# Altium footprint library SparkFun-LED.PCBLIB: 46 footprints (part 2 of 3)
Each footprint in its own frame and in the unit in brackets; x right, y up, seen from the top. Pads: shape width x height; smd on the part's side, far side on the other; paste and mask are expansions set on the pad; w line width, h text height; cw(c..) or ccw(c..) is an arc to the next point about the centre after c.
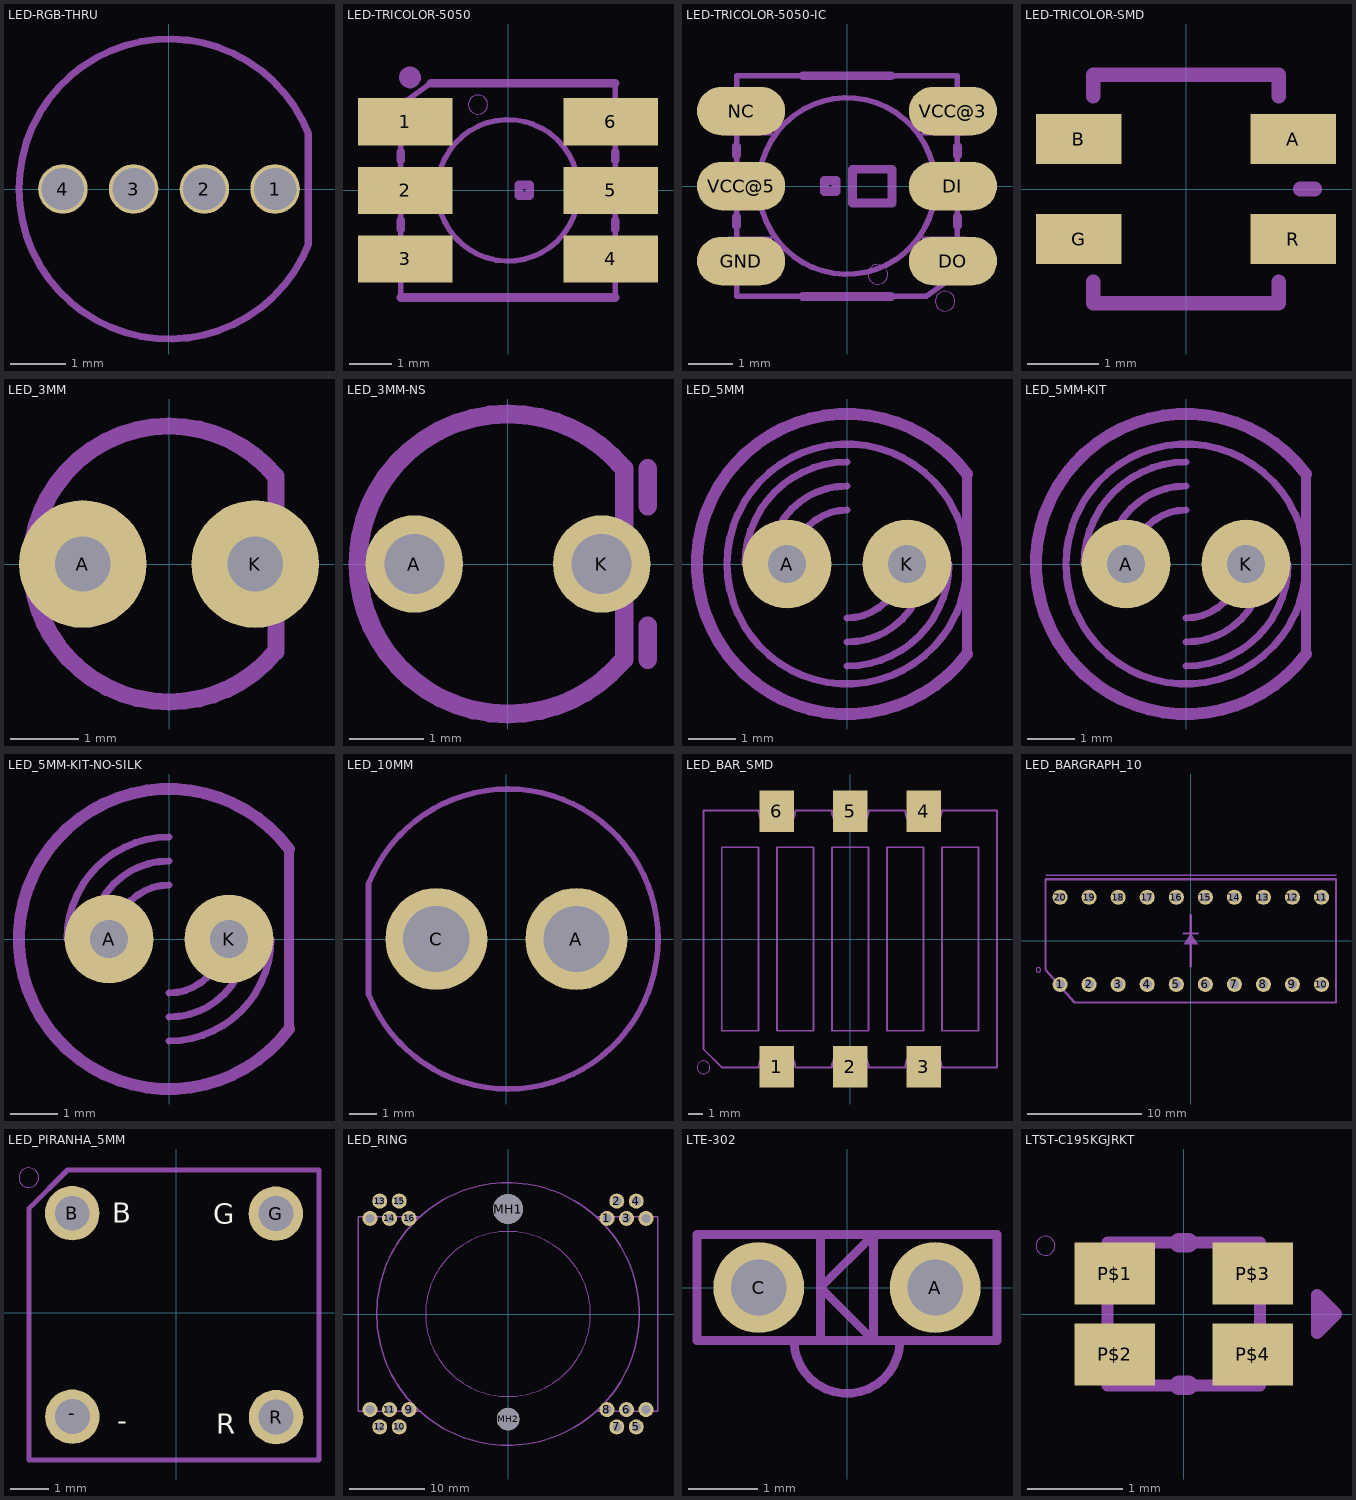
[diagram p1: the footprints below, top view; thin cyan lines are the x and y axes]

## LED-RGB-THRU [mil]
pads (4):
  round 35 hole 30: 1(75,0) 2(25,0) 3(-25,0) 4(-75,0)
tDocu:
  lines w5: 98.43,-39.37 98.43,39.37 ccw(c0.01,0) 98.43,-39.37
tPlace:
  lines w5: 98.43,-39.37 98.43,39.37 ccw(c0.01,0) 98.43,-39.37
bPlace:
  lines w5: 98.43,-39.37 98.43,39.37

## LED-TRICOLOR-5050 [mil]
pads (6):
  rect 86.61x43.31 smd: 1(-94.49,62.99) 2(-94.49,0) 3(-94.49,-62.99) 4(94.49,-62.99) 5(94.49,0) 6(94.49,62.99)
tDocu:
  circle w5: c0,0 r64.96
  region: 66.93,-17.72 66.93,17.72 106.3,17.72 106.3,-17.72
  region: 66.93,45.28 66.93,80.71 106.3,80.71 106.3,45.28
  region: 66.93,-80.71 66.93,-45.28 106.3,-45.28 106.3,-80.71
  region: -66.93,80.71 -66.93,45.28 -106.3,45.28 -106.3,80.71
  region: -66.93,17.72 -66.93,-17.72 -106.3,-17.72 -106.3,17.72
  region: -66.93,-45.28 -66.93,-80.71 -106.3,-80.71 -106.3,-45.28
  lines w5: -98.43,-98.43 -98.43,78.74 -70.87,98.43 98.43,98.43 98.43,-98.43 -98.43,-98.43
tPlace:
  circle w0: c-27.56,78.74 r8.8
  circle w10: c-90.06,103.74 r5
  lines w8: -98.43,-98.43 98.43,-98.43 ; -98.43,-35.43 -98.43,-27.56 ; -98.43,27.56 -98.43,35.43 ; -70.87,98.43 98.43,98.43 ; 98.43,-35.43 98.43,-27.56 ; 98.43,27.56 98.43,35.43 ; 10,-5 10,5 20,5 20,-5 10,-5

## LED-TRICOLOR-5050-IC [mm]
pads (6):
  rrect100% 2x1.1 smd: DI(2.4,0) DO(2.4,-1.7) GND(-2.4,-1.7) NC(-2.4,1.7) VCC@3(2.4,1.7) VCC@5(-2.4,0)
tDocu:
  circle w0.127: c0,0 r2
  region: -1.7,0.45 -1.7,-0.45 -2.7,-0.45 -2.7,0.45
  region: -1.7,-1.15 -1.7,-2.05 -2.7,-2.05 -2.7,-1.15
  region: -1.7,2.05 -1.7,1.15 -2.7,1.15 -2.7,2.05
  region: 1.7,-2.05 1.7,-1.15 2.7,-1.15 2.7,-2.05
  region: 1.7,-0.45 1.7,0.45 2.7,0.45 2.7,-0.45
  region: 1.7,1.15 1.7,2.05 2.7,2.05 2.7,1.15
  lines w0.127: -2.5,-2.5 1.8,-2.5 2.5,-2 2.5,2.5 -2.5,2.5 -2.5,-2.5
tPlace:
  circle w0: c0.7,-2 r0.224
  circle w0: c2.224,-2.61 r0.224
  lines w0.203: -2.5,-0.9 -2.5,-0.7 ; -2.5,0.7 -2.5,0.9 ; -1,-2.5 1,-2.5 ; -1,2.5 1,2.5 ; 2.5,-0.9 2.5,-0.7 ; 2.5,0.7 2.5,0.9 ; -0.508,-0.127 -0.254,-0.127 -0.254,0.127 -0.508,0.127 -0.508,-0.127 ; 0.127,-0.381 1.016,-0.381 1.016,0.381 0.127,0.381 0.127,-0.381

## LED-TRICOLOR-SMD [mil]
pads (4):
  rect 47.24x27.56 smd: A(59.06,27.56) B(-59.06,27.56) G(-59.06,-27.56) R(59.06,-27.56)
tDocu:
  lines w8: 62.99,0 70.87,0
tPlace:
  lines w8: -51.18,-51.18 -51.18,-62.99 51.18,-62.99 51.18,-51.18 ; -51.18,51.18 -51.18,62.99 51.18,62.99 51.18,51.18 ; 62.99,0 70.87,0

## LED_3MM [mil]
pads (2):
  round 74 hole 32: A(-50,0) K(50,0)
tDocu:
  lines w10: -70.44,37.93 ccw(c0,0.01) -80,0 ccw(c0,0) -68.13,-41.93 ; 62,-50 62,50
tPlace:
  lines w10: -70.59,37.65 cw(c0,0) 0,80 cw(c0.01,0) 61.46,51.22 ; -69.46,-39.69 ccw(c0,0) 0,-80 ccw(c0,0) 61.07,-51.68 ; 62,-51 62,-33 ; 62,31 62,51
bPlace:
  lines w10: -70.59,37.65 cw(c0,0) 0,80 cw(c0.01,0) 61.46,51.22 ; -69.46,-39.69 ccw(c0,0) 0,-80 ccw(c0,0) 61.07,-51.68 ; 62,-51 62,-33 ; 62,31 62,51

## LED_3MM-NS [mil]
pads (2):
  round 52 hole 32: A(-50,0) K(50,0)
tDocu:
  lines w10: -70.59,37.65 cw(c0,0) 0,80 cw(c0.01,0) 61.46,51.22 ; -70.44,37.93 ccw(c0,0.01) -80,0 ccw(c0,0) -68.13,-41.93 ; -69.46,-39.69 ccw(c0,0) 0,-80 ccw(c0,0) 61.07,-51.68 ; 62,-51 62,-33 ; 62,-50 62,50 ; 62,31 62,51
tPlace:
  lines w10: 74.5,-51 74.5,-33 ; 74.5,31 74.5,51

## LED_5MM [mil]
pads (2):
  round 74 hole 32: A(-50,0) K(50,0)
tDocu:
  lines w6: -85,0 cw(c0,0) 0,85 ; -65,0 cw(c0,0) 0,65 ; -45,0 cw(c0,0) 0,45 ; 0,-85 ccw(c0,0) 85,0 ; 0,-65 ccw(c0,0) 65,0 ; 0,-45 ccw(c0,0) 45,0
  lines w8: 100,-75 100,75
tPlace:
  circle w6: c0,0 r100
  lines w8: 100,-75 100,75
  lines w10: 100,-75 cw(c0,0) 100,75
bPlace:
  lines w8: 100,-75 100,75

## LED_5MM-KIT [mil]
pads (2):
  round 74 hole 32: A(-50,0) K(50,0)
Top Solder:
  region: -50,-17.5 -53.4,-17.58 -59.75,-15.12 -64.67,-10.43 -67.42,-4.2 -67.5,-0.8 -67.59,2.77 -65.02,9.44 -60.1,14.61 -53.57,17.51 -50,17.6 -46.48,17.54 -40.02,14.74 -35.12,9.67 -32.54,3.12 -32.6,-0.4 -32.63,-3.83 -35.31,-10.15 -40.21,-14.96 -46.57,-17.53 -50,-17.5
  region: 50,-17.5 46.6,-17.58 40.25,-15.12 35.33,-10.43 32.58,-4.2 32.5,-0.8 32.41,2.77 34.98,9.44 39.9,14.61 46.43,17.51 50,17.6 53.52,17.54 59.98,14.74 64.88,9.67 67.46,3.12 67.4,-0.4 67.37,-3.83 64.69,-10.15 59.79,-14.96 53.43,-17.53 50,-17.5
Bottom Solder:
  region: -49.9,-37.5 -53.55,-37.55 -60.74,-36.22 -67.53,-33.51 -73.66,-29.54 -78.9,-24.44 -83.04,-18.42 -85.93,-11.7 -87.45,-4.55 -87.5,-0.9 -87.54,2.84 -86.17,10.19 -83.4,17.13 -79.32,23.39 -74.09,28.74 -67.93,32.97 -61.05,35.91 -53.74,37.46 -50,37.5 -46.26,37.45 -38.95,35.88 -32.09,32.92 -25.93,28.68 -20.72,23.31 -16.66,17.04 -13.9,10.09 -12.55,2.74 -12.6,-1 -12.64,-4.63 -14.13,-11.75 -16.99,-18.43 -21.09,-24.44 -26.29,-29.52 -32.37,-33.49 -39.12,-36.2 -46.27,-37.54 -49.9,-37.5
  region: 50.1,-37.5 46.45,-37.55 39.26,-36.22 32.47,-33.51 26.34,-29.54 21.1,-24.44 16.96,-18.42 14.07,-11.7 12.55,-4.55 12.5,-0.9 12.46,2.84 13.83,10.19 16.6,17.13 20.68,23.39 25.91,28.74 32.07,32.97 38.95,35.91 46.26,37.46 50,37.5 53.74,37.45 61.05,35.88 67.91,32.92 74.07,28.68 79.28,23.31 83.34,17.04 86.1,10.09 87.45,2.74 87.4,-1 87.36,-4.63 85.87,-11.75 83.01,-18.43 78.91,-24.44 73.71,-29.52 67.63,-33.49 60.88,-36.2 53.73,-37.54 50.1,-37.5
tDocu:
  lines w6: -85,0 cw(c0,0) 0,85 ; -65,0 cw(c0,0) 0,65 ; -45,0 cw(c0,0) 0,45 ; 0,-85 ccw(c0,0) 85,0 ; 0,-65 ccw(c0,0) 65,0 ; 0,-45 ccw(c0,0) 45,0
  lines w8: 100,-75 100,75
tPlace:
  circle w6: c0,0 r100
  lines w8: 100,-75 100,75
  lines w10: 100,-75 cw(c0,0) 100,75
bPlace:
  lines w8: 100,-75 100,75

## LED_5MM-KIT-NO-SILK [mil]
pads (2):
  round 74 hole 32: A(-50,0) K(50,0)
Top Solder:
  region: -50,-17.5 -53.4,-17.58 -59.75,-15.12 -64.67,-10.43 -67.42,-4.2 -67.5,-0.8 -67.59,2.77 -65.02,9.44 -60.1,14.61 -53.57,17.51 -50,17.6 -46.48,17.54 -40.02,14.74 -35.12,9.67 -32.54,3.12 -32.6,-0.4 -32.63,-3.83 -35.31,-10.15 -40.21,-14.96 -46.57,-17.53 -50,-17.5
  region: 50,-17.5 46.6,-17.58 40.25,-15.12 35.33,-10.43 32.58,-4.2 32.5,-0.8 32.41,2.77 34.98,9.44 39.9,14.61 46.43,17.51 50,17.6 53.52,17.54 59.98,14.74 64.88,9.67 67.46,3.12 67.4,-0.4 67.37,-3.83 64.69,-10.15 59.79,-14.96 53.43,-17.53 50,-17.5
Bottom Solder:
  region: -49.9,-37.5 -53.55,-37.55 -60.74,-36.22 -67.53,-33.51 -73.66,-29.54 -78.9,-24.44 -83.04,-18.42 -85.93,-11.7 -87.45,-4.55 -87.5,-0.9 -87.54,2.84 -86.17,10.19 -83.4,17.13 -79.32,23.39 -74.09,28.74 -67.93,32.97 -61.05,35.91 -53.74,37.46 -50,37.5 -46.26,37.45 -38.95,35.88 -32.09,32.92 -25.93,28.68 -20.72,23.31 -16.66,17.04 -13.9,10.09 -12.55,2.74 -12.6,-1 -12.64,-4.63 -14.13,-11.75 -16.99,-18.43 -21.09,-24.44 -26.29,-29.52 -32.37,-33.49 -39.12,-36.2 -46.27,-37.54 -49.9,-37.5
  region: 50.1,-37.5 46.45,-37.55 39.26,-36.22 32.47,-33.51 26.34,-29.54 21.1,-24.44 16.96,-18.42 14.07,-11.7 12.55,-4.55 12.5,-0.9 12.46,2.84 13.83,10.19 16.6,17.13 20.68,23.39 25.91,28.74 32.07,32.97 38.95,35.91 46.26,37.46 50,37.5 53.74,37.45 61.05,35.88 67.91,32.92 74.07,28.68 79.28,23.31 83.34,17.04 86.1,10.09 87.45,2.74 87.4,-1 87.36,-4.63 85.87,-11.75 83.01,-18.43 78.91,-24.44 73.71,-29.52 67.63,-33.49 60.88,-36.2 53.73,-37.54 50.1,-37.5
tDocu:
  lines w6: -85,0 cw(c0,0) 0,85 ; -65,0 cw(c0,0) 0,65 ; -45,0 cw(c0,0) 0,45 ; 0,-85 ccw(c0,0) 85,0 ; 0,-65 ccw(c0,0) 65,0 ; 0,-45 ccw(c0,0) 45,0
  lines w8: 100,-75 100,75 100,-75
  lines w10: 100,-75 cw(c0,0) 100,75

## LED_10MM [mm]
pads (2):
  round 3.7 hole 2.4: A(2.54,0) C(-2.54,0)
tDocu:
  lines w0.203: -5,-2 -5,2
  text "L" at 2.159,2.54 h1.57
  text "S" at -2.921,2.54 h1.57
tPlace:
  lines w0.203: -5,-2 ccw(c0.059,0) -5,2 -5,-2
bPlace:
  lines w0.203: -5,-2 -5,2

## LED_BAR_SMD [mil]
pads (6):
  rect 94.49x113.39 smd: 1(-200,-348.03) 2(0,-348.03) 3(200,-348.03) 4(200,348.03) 5(0,348.03) 6(-200,348.03)
tPlace:
  circle w0: c-400,-350 r17.68
Reference:
  lines w5: -400,-300 -400,350 -250,350 ccw(c-200,350) -200,300 ccw(c-200,350) -150,350 -50,350 ccw(c0,350) 0,300 ccw(c0,350) 50,350 150,350 ccw(c200,350) 200,300 ccw(c200,350) 250,350 400,350 400,-350 250,-350 ccw(c200,-350) 200,-300 ccw(c200,-350) 150,-350 50,-350 ccw(c0,-350) 0,-300 ccw(c0,-350) -50,-350 -150,-350 ccw(c-200,-350) -200,-300 ccw(c-200,-350) -250,-350 -350,-350 -400,-300 ; -350,-250 -250,-250 -250,250 -350,250 -350,-250 ; -200,-250 -100,-250 -100,250 -200,250 -200,-250 ; -50,-250 50,-250 50,250 -50,250 -50,-250 ; 100,-250 200,-250 200,250 100,250 100,-250 ; 250,-250 350,-250 350,250 250,250 250,-250

## LED_BARGRAPH_10 [mil]
pads (20):
  round 52 hole 32: 1(-450,-150) 2(-350,-150) 3(-250,-150) 4(-150,-150) 5(-50,-150) 6(50,-150) 7(150,-150) 8(250,-150) 9(350,-150) 10(450,-150) 11(450,150) 12(350,150) 13(250,150) 14(150,150) 15(50,150) 16(-50,150) 17(-150,150) 18(-250,150) 19(-350,150) 20(-450,150)
tPlace:
  circle w0: c-525,-100 r8
  region: -25,-12.5 25,-12.5 0,25
  lines w5: -500,225 500,225
  lines w8: -25,25 25,25 ; 0,-87.5 0,87.5 ; -500,-100 -400,-212.5 500,-212.5 500,212.5 -500,212.5 -500,-100

## LED_PIRANHA_5MM [mil]
pads (4):
  round 55.43 hole 35.43: -(-105.67,-105.67) B(-105.83,101.34) G(101.38,100.87) R(101.54,-106.14)
Top Overlay:
  text "B" at -64.96,91.46 h20.4
  text "G" at 37.87,90.47 h20.4
  text "R" at 40.83,-123.27 h20.4
  text "-" at -60,-119.33 h20.4
tPlace:
  circle w0: c-150,137.5 r10
  lines w5: -150,-150 145.28,-150 145.28,145.28 -110.63,145.28 -150,105.91 -150,-150

## LED_RING [mm]
pads (22):
  round 2 hole 1.2: 1(13.2,12.75) 2(14.5,15.05) 3(15.8,12.75) 4(17.1,15.05) 5(17.1,-15.05) 6(15.8,-12.75) 7(14.5,-15.05) 8(13.2,-12.75) 9(-13.2,-12.75) 10(-14.5,-15.05) 11(-15.8,-12.75) 12(-17.1,-15.05) 13(-17.1,15.05) 14(-15.8,12.75) 15(-14.5,15.05) 16(-13.2,12.75) COM0(18.4,12.75) COM1(18.4,-12.75) COM2(-18.4,-12.75) COM3(-18.4,12.75)
  round 4 hole 4 unplated: MH1(0,14)
  round 3 hole 3 unplated: MH2(0,-14)
tDocu:
  lines w0.178: -20,-13 -11.7,-13 ; -20,13 -11.7,13 ; 11.7,-13 20,-13 ; 11.7,13 20,13
tPlace:
  circle w0.178: c0,0 r17.5
  circle w0.127: c0,0 r11
  lines w0.178: -20,-13 -20,13 ; 20,-13 20,13

## LTE-302 [mil]
pads (2):
  round 51.5 hole 31.5: A(50,0) C(-50,0)
tDocu:
  lines w5: -30,-30 ccw(c0,-30) 30,-30
tPlace:
  lines w5: -30,-30 -15,-30 ; -30,-30 -85,-30 -85,30 -15,30 ; -30,-30 ccw(c0,-30) 30,-30 ; -15,-30 15,-30 ; -15,-30 -15,0 ; -15,0 15,30 ; -15,0 15,-30 ; -15,0 -15,30 ; -15,30 15,30 ; 15,-30 30,-30 ; 15,-30 15,30 ; 15,30 85,30 85,-30 30,-30

## LTST-C195KGJRKT [mm]
pads (4):
  rect 0.85x0.65 smd: P$1(-0.725,0.425) P$2(-0.725,-0.425) P$3(0.725,0.425) P$4(0.725,-0.425)
tDocu:
  circle w0: c-0.5,0.4 r0.1
  lines w0.127: -0.8,-0.75 0.8,-0.75 0.8,0.75 -0.8,0.75 -0.8,-0.75
tPlace:
  circle w0: c-1.453,0.718 r0.1
  lines w0.127: 1.5,-0.1 1.4,-0.2 1.4,0.2 1.5,0.1 ; 1.5,-0.1 1.6,0 1.5,0.1 ; 1.5,-0.1 1.5,0.1
  lines w0.203: -0.05,-0.75 0.05,-0.75 ; -0.05,0.75 0.05,0.75